# Altium footprint library ARCAPCBLIB.PcbLib: 18 footprints (part 1 of 2)
Each footprint in its own frame and in the unit in brackets; x right, y up, seen from the top. Pads: shape width x height; smd on the part's side, far side on the other; paste and mask are expansions set on the pad; w line width, h text height; cw(c..) or ccw(c..) is an arc to the next point about the centre after c.
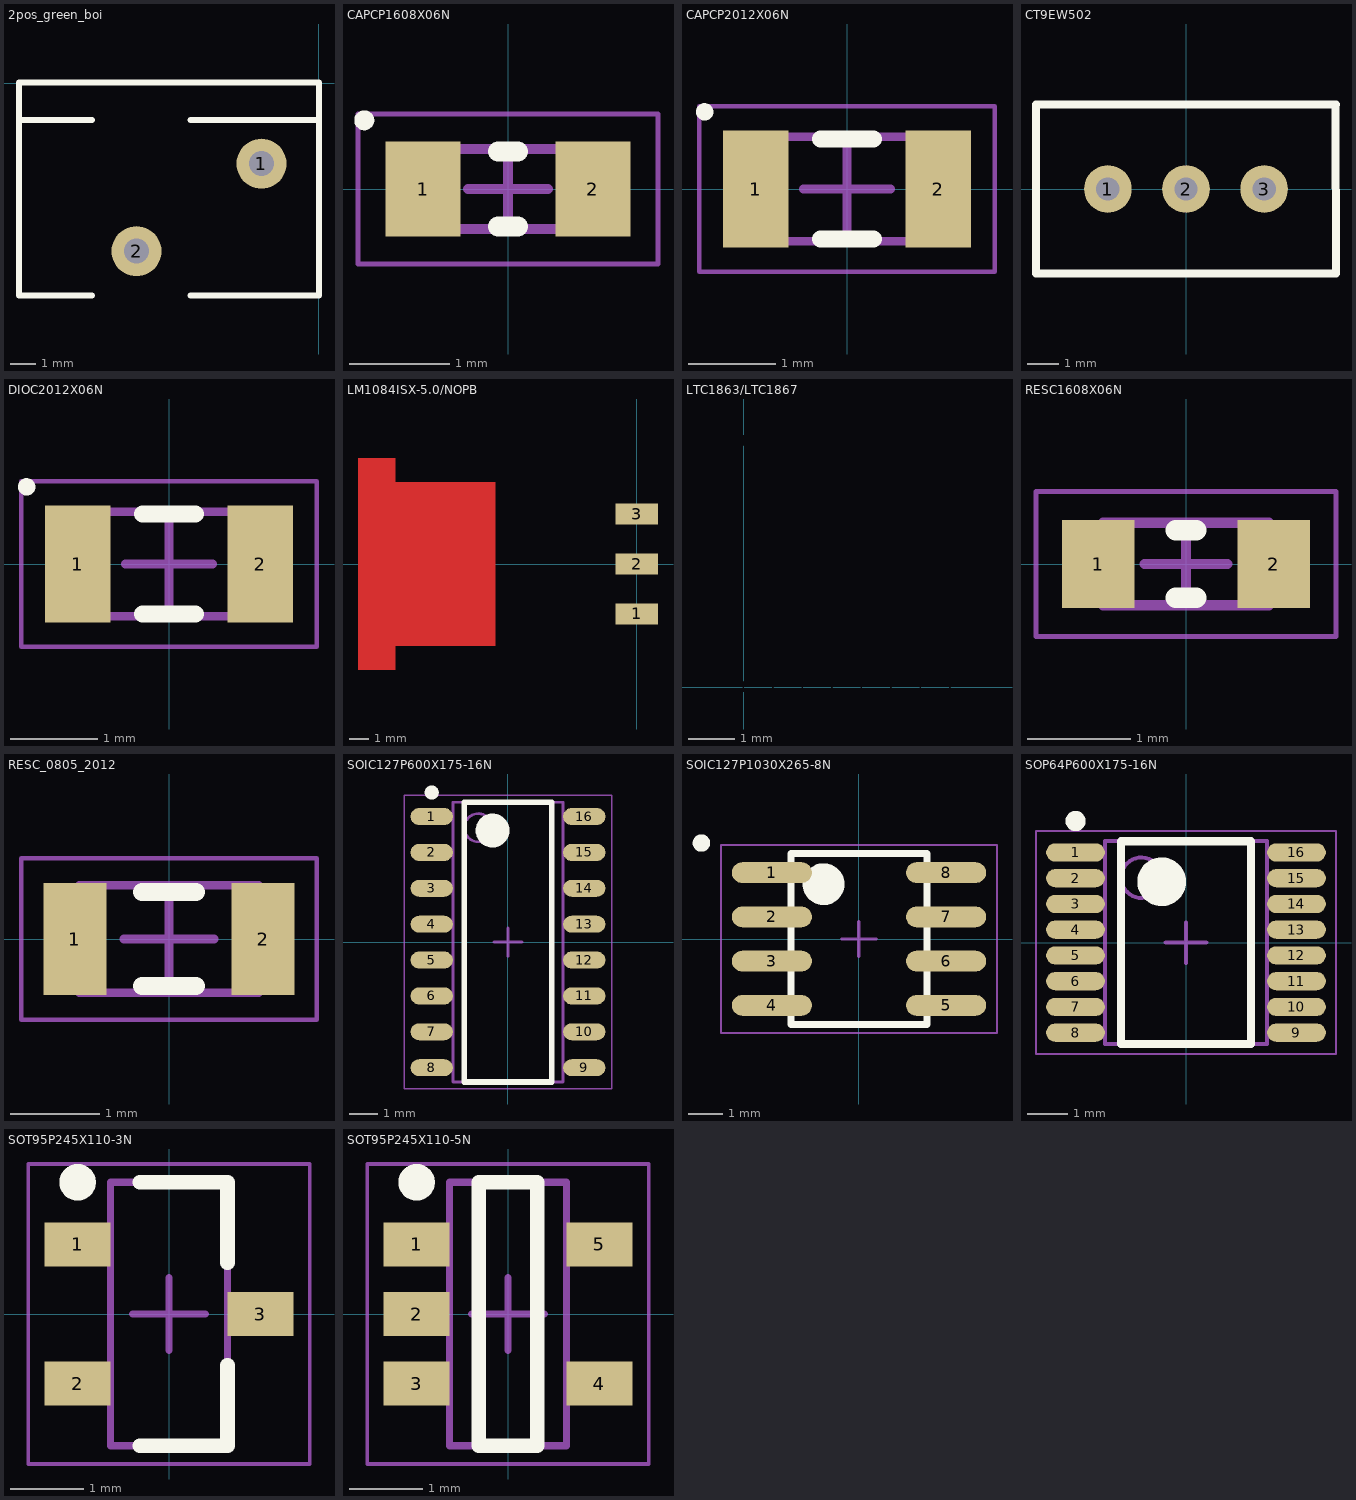
[diagram p0: the footprints below, top view; thin cyan lines are the x and y axes]

## 2pos_green_boi [mm]
pads (2):
  round 2 hole 1: 1(-2.286,-3.226) 2(-7.286,-6.726)
Top Overlay:
  lines w0.254: -9.064,-8.5 -11.986,-8.5 -11.986,0.024 ; -9.064,-1.476 -11.986,-1.476 -11.986,0.024 ; -5.127,-8.5 0.014,-8.5 0.014,0.024 -11.986,0.024 ; -5.127,-1.476 -0.006,-1.476

## 1101M2S3CQE2 [mm] "3 Pos Switch"

## adc [mm]

## CAPCP1608X06N [mm] "Chip Capacitor, 2-Leads, Body 1.60x0.80mm, IPC Medium Density"
height 0.6
pads (2):
  rect 0.75x0.95 smd: 1(-0.85,0) 2(0.85,0)
Top Overlay:
  circle w0.1: c-1.437,0.687 r0.05
  lines w0.2: -0.1,-0.375 0.1,-0.375 ; -0.1,0.375 0.1,0.375
Mechanical 13:
  lines w0.1: -0.8,-0.4 0.8,-0.4 0.8,0.4 -0.8,0.4 -0.8,-0.4
Mechanical 15:
  lines w0.05: -1.5,-0.75 1.5,-0.75 1.5,0.75 -1.5,0.75 -1.5,-0.75
  lines w0.1: -0.4,0 0.4,0 ; 0,-0.4 0,0.4
3D body: height 0.6, standoff 0, extent 0.6,-0.4 0.8,0.4
3D body: height 0.6, standoff 0, extent -0.8,-0.4 -0.6,0.4
3D body: height 0.6, standoff 0, extent -0.6,-0.4 0.6,0.4

## CAPCP2012X06N [mm] "Chip Capacitor, 2-Leads, Body 2.00x1.20mm, IPC Medium Density"
height 0.6
pads (2):
  rect 0.75x1.35 smd: 1(-1.05,0) 2(1.05,0)
Top Overlay:
  circle w0.1: c-1.637,0.887 r0.05
  lines w0.2: -0.3,-0.575 0.3,-0.575 ; -0.3,0.575 0.3,0.575
Mechanical 13:
  lines w0.1: -1,-0.6 -1,0.6 1,0.6 1,-0.6 -1,-0.6
Mechanical 15:
  lines w0.05: -1.7,-0.95 -1.7,0.95 1.7,0.95 1.7,-0.95 -1.7,-0.95
  lines w0.1: -0.5,0 0.5,0 ; 0,-0.5 0,0.5
3D body: height 0.6, standoff 0, extent -0.8,-0.6 0.8,0.6
3D body: height 0.6, standoff 0, extent -1,-0.6 -0.8,0.6
3D body: height 0.6, standoff 0, extent 0.8,-0.6 1,0.6

## CT9EW502 [mil]
pads (3):
  round 60 hole 29.53: 1(-98.43,0) 2(0,0) 3(98.43,0)
Top Overlay:
  lines w10: 188.58,106.3 188.98,-106.3 -188.98,-106.3 -188.98,106.3 188.98,106.3

## DIOC2012X06N [mm] "Chip Diode, 2-Leads, Body 2.00x1.20mm, IPC Medium Density"
height 0.6
pads (2):
  rect 0.75x1.35 smd: 1(-1.05,0) 2(1.05,0)
Top Overlay:
  circle w0.1: c-1.637,0.887 r0.05
  lines w0.2: -0.3,-0.575 0.3,-0.575 ; -0.3,0.575 0.3,0.575
Mechanical 13:
  lines w0.1: -1,-0.6 -1,0.6 1,0.6 1,-0.6 -1,-0.6
Mechanical 15:
  lines w0.05: -1.7,-0.95 -1.7,0.95 1.7,0.95 1.7,-0.95 -1.7,-0.95
  lines w0.1: -0.5,0 0.5,0 ; 0,-0.5 0,0.5
3D body: height 0.6, standoff 0, extent -0.8,-0.6 0.8,0.6
3D body: height 0.6, standoff 0, extent -1,-0.6 -0.8,0.6
3D body: height 0.6, standoff 0, extent 0.8,-0.6 1,0.6

## LM1084ISX-5.0/NOPB [mil]
pads (3):
  rect 85x42 smd: 1(0,-100) 2(0,0) 3(0,100)
Top Layer:
  rectangle: -558,-164 -283,164
  rectangle: -558,-212.5 -483,212.5

## LTC1863/LTC1867 [mil] "ADC"
pads (16):
  rect 16.5x45 on Top Solder: 1(0,0) 1(0,209) 1(25,0) 1(25,209) 1(50,0) 1(50,209) 1(75,0) 1(75,209) 1(100,0) 1(100,209) 1(125,0) 1(125,209) 1(150,0) 1(150,209) 1(175,0) 1(175,209)

## RESC1608X06N [mm] "Chip Resistor, 2-Leads, Body 1.60x0.80mm, IPC Medium Density"
height 0.6
pads (2):
  rect 0.7x0.85 smd: 1(-0.85,0) 2(0.85,0)
Top Overlay:
  lines w0.2: -0.1,-0.325 0.1,-0.325 ; -0.1,0.325 0.1,0.325
Mechanical 13:
  lines w0.1: -0.8,-0.4 -0.8,0.4 0.8,0.4 0.8,-0.4 -0.8,-0.4
Mechanical 15:
  lines w0.05: -1.45,-0.7 -1.45,0.7 1.45,0.7 1.45,-0.7 -1.45,-0.7
  lines w0.1: -0.4,0 0.4,0 ; 0,-0.4 0,0.4
3D body: height 0.6, standoff 0, extent -0.6,-0.4 0.6,0.4
3D body: height 0.6, standoff 0, extent -0.8,-0.4 -0.6,0.4
3D body: height 0.6, standoff 0, extent 0.6,-0.4 0.8,0.4

## RESC_0805_2012 [mm] "Chip Resistor, 2-Leads, Body 2.00x1.20mm, IPC Medium Density"
height 0.6
pads (2):
  rect 0.7x1.25 smd: 1(-1.05,0) 2(1.05,0)
Top Overlay:
  lines w0.2: -0.3,-0.525 0.3,-0.525 ; -0.3,0.525 0.3,0.525
Mechanical 13:
  lines w0.1: -1,-0.6 -1,0.6 1,0.6 1,-0.6 -1,-0.6
Mechanical 15:
  lines w0.05: -1.65,-0.9 -1.65,0.9 1.65,0.9 1.65,-0.9 -1.65,-0.9
  lines w0.1: -0.5,0 0.5,0 ; 0,-0.5 0,0.5
3D body: height 0.6, standoff 0, extent -0.8,-0.6 0.8,0.6
3D body: height 0.6, standoff 0, extent -1,-0.6 -0.8,0.6
3D body: height 0.6, standoff 0, extent 0.8,-0.6 1,0.6

## SOIC127P600X175-16N [mm] "SOIC, 16-Leads, Body 9.90x3.90mm, Pitch 1.27mm, IPC Medium Density"
height 1.75
pads (16):
  oval 1.5x0.6 smd: 1(-2.7,4.445) 2(-2.7,3.175) 3(-2.7,1.905) 4(-2.7,0.635) 5(-2.7,-0.635) 6(-2.7,-1.905) 7(-2.7,-3.175) 8(-2.7,-4.445) 9(2.7,-4.445) 10(2.7,-3.175) 11(2.7,-1.905) 12(2.7,-0.635) 13(2.7,0.635) 14(2.7,1.905) 15(2.7,3.175) 16(2.7,4.445)
Top Overlay:
  circle w0.6: c-0.55,3.95 r0.3
  circle w0.25: c-2.7,5.295 r0.125
  lines w0.2: -1.55,-4.95 1.55,-4.95 1.55,4.95 -1.55,4.95 -1.55,-4.95
Mechanical 13:
  circle w0.1: c-1.05,4.05 r0.5
  lines w0.1: -1.95,-4.95 1.95,-4.95 1.95,4.95 -1.95,4.95 -1.95,-4.95
Mechanical 15:
  lines w0.05: -3.675,-5.2 3.675,-5.2 3.675,5.2 -3.675,5.2 -3.675,-5.2
  lines w0.1: -0.5,0 0.5,0 ; 0,-0.5 0,0.5
3D body: height 1.75, standoff 0.1, extent -1.95,-4.95 1.95,4.95

## SOIC127P1030X265-8N [mm] "SOIC, 8-Leads, Body 4.90x3.90mm, Pitch 1.27mm, IPC Medium Density"
height 2.65
pads (8):
  oval 2.3x0.6 smd: 1(-2.5,1.905) 2(-2.5,0.635) 3(-2.5,-0.635) 4(-2.5,-1.905) 5(2.5,-1.905) 6(2.5,-0.635) 7(2.5,0.635) 8(2.5,1.905)
Top Overlay:
  circle w0.6: c-1.016,1.575 r0.3
  circle w0.25: c-4.525,2.755 r0.125
  lines w0.2: -1.95,-2.45 1.95,-2.45 1.95,2.45 -1.95,2.45 -1.95,-2.45
Mechanical 13:
  circle w0.1: c-1.05,1.55 r0.5
  lines w0.1: -1.95,-2.45 1.95,-2.45 1.95,2.45 -1.95,2.45 -1.95,-2.45
Mechanical 15:
  lines w0.05: -3.962,-2.7 3.962,-2.7 3.962,2.7 -3.962,2.7 -3.962,-2.7
  lines w0.1: -0.5,0 0.5,0 ; 0,-0.5 0,0.5
3D body: height 2.65, standoff 0.1, extent -1.95,-2.45 1.95,2.45

## SOP64P600X175-16N [mm] "SOP, 16-Leads, Body 4.89x3.90mm, Pitch 0.64mm, IPC Medium Density"
height 1.75
pads (16):
  oval 1.45x0.45 smd: 1(-2.725,2.222) 2(-2.725,1.587) 3(-2.725,0.953) 4(-2.725,0.318) 5(-2.725,-0.318) 6(-2.725,-0.953) 7(-2.725,-1.587) 8(-2.725,-2.222) 9(2.725,-2.222) 10(2.725,-1.587) 11(2.725,-0.953) 12(2.725,-0.318) 13(2.725,0.318) 14(2.725,0.953) 15(2.725,1.587) 16(2.725,2.222)
Top Overlay:
  circle w0.25: c-2.725,2.997 r0.125
  circle w0.6: c-0.6,1.5 r0.3
  lines w0.2: -1.6,-2.5 -1.6,2.5 1.6,2.5 1.6,-2.5 -1.6,-2.5
Mechanical 13:
  circle w0.1: c-1.1,1.6 r0.5
  lines w0.1: -2,-2.5 -2,2.5 2,2.5 2,-2.5 -2,-2.5
Mechanical 15:
  lines w0.05: -3.7,-2.75 -3.7,2.75 3.7,2.75 3.7,-2.75 -3.7,-2.75
  lines w0.1: -0.5,0 0.5,0 ; 0,-0.5 0,0.5
3D body: height 1.75, standoff 0.1, extent -2,-2.5 2,2.5

## SOT95P245X110-3N [mm] "SOT23, 3-Leads, Body 3.60x2.45mm, Pitch 0.95mm, IPC Medium Density"
height 1.1
pads (3):
  rect 0.9x0.6 smd: 1(-1.25,0.95) 2(-1.25,-0.95) 3(1.25,0)
Top Overlay:
  circle w0.25: c-1.25,1.8 r0.125
  lines w0.2: -0.4,-1.8 0.8,-1.8 0.8,-0.7 ; -0.4,1.8 0.8,1.8 0.8,0.7
Mechanical 13:
  lines w0.1: -0.8,-1.8 0.8,-1.8 0.8,1.8 -0.8,1.8 -0.8,-1.8
Mechanical 15:
  lines w0.05: -1.925,-2.05 1.925,-2.05 1.925,2.05 -1.925,2.05 -1.925,-2.05
  lines w0.1: -0.5,0 0.5,0 ; 0,-0.5 0,0.5
3D body: height 1.1, standoff 0.05, extent -0.8,-1.8 0.8,1.8

## SOT95P245X110-5N [mm] "SOT23, 5-Leads, Body 3.60x2.45mm, Pitch 0.95mm, IPC Medium Density"
height 1.1
pads (5):
  rect 0.9x0.6 smd: 1(-1.25,0.95) 2(-1.25,0) 3(-1.25,-0.95) 4(1.25,-0.95) 5(1.25,0.95)
Top Overlay:
  circle w0.25: c-1.25,1.8 r0.125
  lines w0.2: -0.4,-1.8 0.4,-1.8 0.4,1.8 -0.4,1.8 -0.4,-1.8
Mechanical 13:
  lines w0.1: -0.8,-1.8 -0.8,1.8 0.8,1.8 0.8,-1.8 -0.8,-1.8
Mechanical 15:
  lines w0.05: -1.925,-2.05 -1.925,2.05 1.925,2.05 1.925,-2.05 -1.925,-2.05
  lines w0.1: -0.5,0 0.5,0 ; 0,-0.5 0,0.5
3D body: height 1.1, standoff 0.05, extent -0.8,-1.8 0.8,1.8